# Altium integrated library ON Semi ESD Protection Diodes & Arrays.IntLib: 286 symbols (part 1 of 8)
Pins are listed as number, name and electrical type; pins without a type are passive.

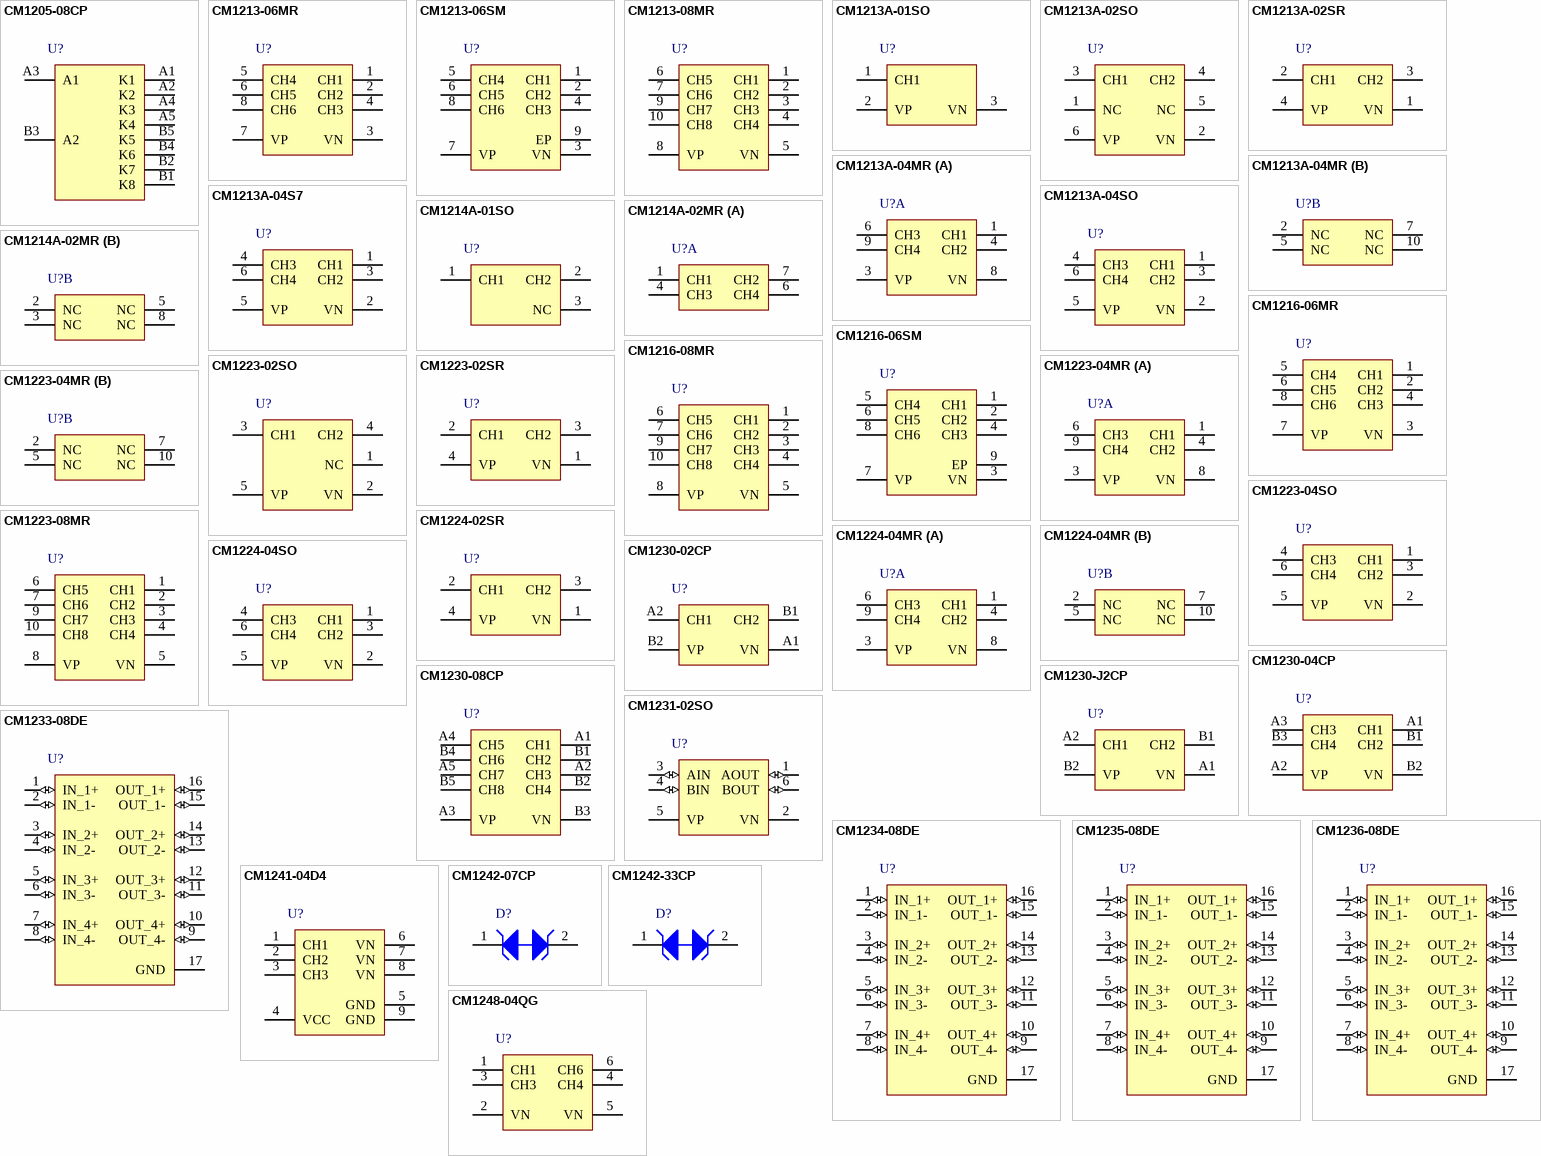
[diagram p0: symbols CM1205-08CP to CM1248-04QG]

## CM1205-08CP
designator U?
8-Channel ESD Protection Array, 10-Pin WLCSP, Pb-Free, Tape and Reel; Manufacturer: On Semiconductor; PartNumber: CM1205-08CP; C Max (pF): 47; Direction: Unidirectional; Number of Lines: 8; DatasheetVersion: Rev. 4; PackageVersion: Rev. O, 07/2010; PackageReference: WLCSP-10-567BM-01; PackageDescription: 10-Ball Wafer Level Chip Scale Package, Body 3.1 x 1.15 mm, Pitch 0.65 mm; Supplier 1: Digi-Key; Supplier Part Number 1: CM1205-08CP-ND; Supplier 2: Mouser; Supplier Part Number 2: 748-CM1205-08CP; Packing: Tape and Reel; RoHS: Pb-Free; Mounting Technology: Surface Mount; ComponentLink1Description: Manufacturer URL; ComponentLink1URL: http://www.onsemi.com/; ComponentLink2Description: Datasheet; ComponentLink2URL: http://www.onsemi.com/pub_link/Collateral/CM1205-D.PDF; ComponentLink3Description: Package Specification; ComponentLink3URL: http://www.onsemi.com/pub_link/Collateral/567BM.PDF
footprint ONSC-WLCSP-10-567BM-01_V (BGA, 10-Balls, Body 3.1x1.15mm, Pitch 0.65mm)
pins: A1 K1, A2 K2, A3 A1, A4 K3, A5 K4, B1 K8, B2 K7, B3 A2, B4 K6, B5 K5

## CM1213-06MR
designator U?
6-Channel Low Capacitance ESD Protection Array, 8-Pin MICRO, Pb-Free, Tape and Reel; Manufacturer: On Semiconductor; PartNumber: CM1213-06MR; C Max (pF): 1.5; Direction: Bidirectional; IR Max (uA): 1; Number of Lines: 6; PPK Max (W): 0.4; DatasheetVersion: Rev. 5; PackageVersion: Rev. O, 12/2008; PackageReference: MICRO-8-846AD; PackageDescription: 8-Pin Micro Small Outline Package, Body 3 x 3 mm, Pitch 0.65 mm; Supplier 1: Digi-Key; Supplier Part Number 1: CM1213-06MR-ND; Supplier 2: Mouser; Supplier Part Number 2: 748-CM1213-06MR; Packing: Tape and Reel; RoHS: Pb-Free; Mounting Technology: Surface Mount; Code_JEDEC: MO-187; ComponentLink1Description: Manufacturer URL; ComponentLink1URL: http://www.onsemi.com/; ComponentLink2Description: Datasheet; ComponentLink2URL: http://www.onsemi.com/pub_link/Collateral/CM1213-D.PDF; ComponentLink3Description: Package Specification; ComponentLink3URL: http://www.onsemi.cn/pub_link/Collateral/846AD.PDF
footprint ONSC-MICRO-8-846AD_N (SOP, 8-Leads, Body 3.1x3.1mm, Pitch 0.65mm, IPC Medium Density)
footprint ONSC-MICRO-8-846AD_L (SOP, 8-Leads, Body 3.1x3.1mm, Pitch 0.65mm, IPC High Density)
footprint ONSC-MICRO-8-846AD_M (SOP, 8-Leads, Body 3.1x3.1mm, Pitch 0.65mm, IPC Low Density)
pins: 1 CH1 "ESD Channel", 2 CH2 "ESD Channel", 3 VN (power) "Negative voltage supply rail", 4 CH3 "ESD Channel", 5 CH4 "ESD Channel", 6 CH5 "ESD Channel", 7 VP (power) "Positive voltage supply rail", 8 CH6 "ESD Channel"

## CM1213-06SM
designator U?
6-Channel Low Capacitance ESD Protection Array, 8-Pin SOIC, Pb-Free, Tape and Reel; Manufacturer: On Semiconductor; PartNumber: CM1213-06SM; C Max (pF): 1.5; Direction: Bidirectional; IR Max (uA): 1; Number of Lines: 6; PPK Max (W): 0.6; DatasheetVersion: Rev. 5; PackageVersion: Rev. B, 06/2005; PackageReference: SOIC-8-751AC-01; PackageDescription: 8-Pin Small Outline Integrated Circuit, Body 4.9 x 3.9 mm, Pitch 1.27 mm; Supplier 1: Digi-Key; Supplier Part Number 1: CM1213-06SM-ND; Supplier 2: Newark; Supplier Part Number 2: 99R2502; Packing: Tape and Reel; RoHS: Pb-Free; Mounting Technology: Surface Mount; ComponentLink1Description: Manufacturer URL; ComponentLink1URL: http://www.onsemi.com/; ComponentLink2Description: Datasheet; ComponentLink2URL: http://www.onsemi.com/pub_link/Collateral/CM1213-D.PDF; ComponentLink3Description: Package Specification; ComponentLink3URL: http://www.onsemi.com/pub_link/Collateral/751AC.PDF
footprint ONSC-SOIC-8-751AC-01_V (SOIC, 8-Leads, Body 4.9x3.9mm, Pitch 1.27mm, Thermal Pad 2.03x2.72mm)
pins: 1 CH1 "ESD Channel", 2 CH2 "ESD Channel", 3 VN (power) "Negative voltage supply rail", 4 CH3 "ESD Channel", 5 CH4 "ESD Channel", 6 CH5 "ESD Channel", 7 VP (power) "Positive voltage supply rail", 8 CH6 "ESD Channel", 9 EP

## CM1213-08MR
designator U?
8-Channel Low Capacitance ESD Protection Array, 10-Pin MSOP, Pb-Free, Tape and Reel; Manufacturer: On Semiconductor; PartNumber: CM1213-08MR; C Max (pF): 1.5; Direction: Bidirectional; IR Max (uA): 1; Number of Lines: 8; PPK Max (W): 0.4; DatasheetVersion: Rev. 5; PackageVersion: Rev. O, 12/2008; PackageReference: MSOP-10-846AE-01; PackageDescription: 10-Pin Small Outline Package, Body 3 x 3 mm, Pitch 0.5 mm; Supplier 1: Digi-Key; Supplier Part Number 1: CM1213-08MROSTR-ND; Supplier 2: Digi-Key; Supplier Part Number 2: CM1213-08MROSCT-ND; Supplier 3: Digi-Key; Supplier Part Number 3: CM1213-08MROSDKR-ND; Supplier 4: Newark; Supplier Part Number 4: 99R2503; Supplier 5: Mouser; Supplier Part Number 5: 748-CM1213-08MR; Packing: Tape and Reel; RoHS: Pb-Free; Mounting Technology: Surface Mount; Code_JEDEC: MO-187; ComponentLink1Description: Manufacturer URL; ComponentLink1URL: http://www.onsemi.com/; ComponentLink2Description: Datasheet; ComponentLink2URL: http://www.onsemi.com/pub_link/Collateral/CM1213-D.PDF; ComponentLink3Description: Package Specification; ComponentLink3URL: http://www.onsemi.com/pub_link/Collateral/846AE.PDF
footprint ONSC-MSOP-10-846AE-01_N (SOP, 10-Leads, Body 3.1x3.1mm, Pitch 0.5mm, IPC Medium Density)
footprint ONSC-MSOP-10-846AE-01_L (SOP, 10-Leads, Body 3.1x3.1mm, Pitch 0.5mm, IPC High Density)
footprint ONSC-MSOP-10-846AE-01_M (SOP, 10-Leads, Body 3.1x3.1mm, Pitch 0.5mm, IPC Low Density)
pins: 1 CH1 "ESD Channel", 2 CH2 "ESD Channel", 3 CH3 "ESD Channel", 4 CH4 "ESD Channel", 5 VN (power) "Negative voltage supply rail", 6 CH5 "ESD Channel", 7 CH6 "ESD Channel", 8 VP (power) "Positive voltage supply rail", 9 CH7 "ESD Channel", 10 CH8 "ESD Channel"

## CM1213A-01SO
designator U?
1-Channel Low Capacitance ESD Protection Array, 3-Pin SOT-23, Pb-Free, Tape and Reel; Manufacturer: On Semiconductor; PartNumber: CM1213A-01SO; C Max (pF): 1.2; Direction: Unidirectional; IR Max (uA): 1; PPK Max (W): 0.225; DatasheetVersion: Rev. 8; PackageVersion: Rev. AP, 11/2009; PackageReference: SOT-23-3-318-08; PackageDescription: 3-Pin Small Outline Transistor, Body 2.92 x 1.3 mm, Pitch 0.95 mm; Supplier 1: Digi-Key; Supplier Part Number 1: CM1213A-01SOOSTR-ND; Supplier 2: Digi-Key; Supplier Part Number 2: CM1213A-01SOOSCT-ND; Supplier 3: Digi-Key; Supplier Part Number 3: CM1213A-01SOOSDKR-ND; Supplier 4: Newark; Supplier Part Number 4: 99R2504; Supplier 5: Mouser; Supplier Part Number 5: 748-CM1213A-01SO; Number of Lines: 1; Packing: Tape and Reel; RoHS: Pb-Free; Mounting Technology: Surface Mount; ComponentLink1Description: Manufacturer URL; ComponentLink1URL: http://www.onsemi.com/; ComponentLink2Description: Datasheet; ComponentLink2URL: http://www.onsemi.com/pub_link/Collateral/CM1213A.PDF; ComponentLink3Description: Package Specification; ComponentLink3URL: http://www.onsemi.cn/pub_link/Collateral/318-08.PDF
footprint ONSC-SOT-23-3-318-08_V (SOT23, 3-Leads, Body 2.92x1.3mm, Pitch 0.95mm)
pins: 1 CH1 "ESD Channel", 2 VP (power) "Positive Voltage Supply Rail", 3 VN (power) "Negative Voltage Supply Rail"

## CM1213A-02SO
designator U?
2-Channel Low Capacitance ESD Protection Array, 6-Pin SC-74, Pb-Free, Tape and Reel; Manufacturer: On Semiconductor; PartNumber: CM1213A-02SO; C Max (pF): 1.2; Direction: Unidirectional; IR Max (uA): 1; Number of Lines: 2; PPK Max (W): 0.225; DatasheetVersion: Rev. 8; PackageVersion: Rev. N, 06/2012; PackageReference: SC-74-6-318F-05; PackageDescription: 6-Pin Small Outline Transistor, Body 3 x 1.5 mm, Pitch 0.95 mm; Supplier 1: Digi-Key; Supplier Part Number 1: CM1213A-02SOOSTR-ND; Supplier 2: Digi-Key; Supplier Part Number 2: CM1213A-02SOOSCT-ND; Supplier 3: Digi-Key; Supplier Part Number 3: CM1213A-02SOOSDKR-ND; Supplier 4: Newark; Supplier Part Number 4: 99R2505; Supplier 5: Mouser; Supplier Part Number 5: 748-CM1213A-02SO; Packing: Tape and Reel; RoHS: Pb-Free; Mounting Technology: Surface Mount; ComponentLink1Description: Manufacturer URL; ComponentLink1URL: http://www.onsemi.com/; ComponentLink2Description: Datasheet; ComponentLink2URL: http://www.onsemi.com/pub_link/Collateral/CM1213A.PDF; ComponentLink3Description: Package Specification; ComponentLink3URL: http://www.onsemi.com/pub_link/Collateral/318F-05.PDF
footprint ONSC-SC-74-6-318F-05_V (SOT23, 6-Leads, Body 3x1.5mm, Pitch 0.95mm)
pins: 1 NC "No Connect", 2 VN (power) "Negative Voltage Supply Rail", 3 CH1 "ESD Channel", 4 CH2 "ESD Channel", 5 NC "No Connect", 6 VP (power) "Positive Voltage Supply Rail"

## CM1213A-02SR
designator U?
2-Channel Low Capacitance ESD Protection Array, 4-Pin SOT-143, Pb-Free, Tape and Reel; Manufacturer: On Semiconductor; PartNumber: CM1213A-02SR; C Max (pF): 1.2; Direction: Unidirectional; IR Max (uA): 1; Number of Lines: 2; PPK Max (W): 0.225; DatasheetVersion: Rev. 8; PackageVersion: Rev. A, 03/2009; PackageReference: SOT-143-4-527AF-01; PackageDescription: 4-Pin Small Outline Transistor, Body 2.92 x 1.3 mm, Pitch 1.92 mm; Supplier 1: Digi-Key; Supplier Part Number 1: CM1213A-02SROSTR-ND; Supplier 2: Digi-Key; Supplier Part Number 2: CM1213A-02SROSCT-ND; Supplier 3: Digi-Key; Supplier Part Number 3: CM1213A-02SROSDKR-ND; Supplier 4: Newark; Supplier Part Number 4: 99R2506; Supplier 5: Mouser; Supplier Part Number 5: 748-CM1213A-02SR; Packing: Tape and Reel; RoHS: Pb-Free; Mounting Technology: Surface Mount; Code_JEDEC: TO-253; ComponentLink1Description: Manufacturer URL; ComponentLink1URL: http://www.onsemi.com/; ComponentLink2Description: Datasheet; ComponentLink2URL: http://www.onsemi.com/pub_link/Collateral/CM1213A.PDF; ComponentLink3Description: Package Specification; ComponentLink3URL: http://www.onsemi.com/pub_link/Collateral/527AF.PDF
footprint ONSC-SOT-143-4-527AF-01_N (SOT143, 4-Leads, Body 3.04x1.4mm, Pitch 1.92mm, IPC Medium Density)
footprint ONSC-SOT-143-4-527AF-01_L (SOT143, 4-Leads, Body 3.04x1.4mm, Pitch 1.92mm, IPC High Density)
footprint ONSC-SOT-143-4-527AF-01_M (SOT143, 4-Leads, Body 3.04x1.4mm, Pitch 1.92mm, IPC Low Density)
pins: 1 VN (power) "Negative Voltage Supply Rail", 2 CH1 "ESD Channel", 3 CH2 "ESD Channel", 4 VP (power) "Positive Voltage Supply Rail"

## CM1213A-04MR
designator U?
4-Channel Low Capacitance ESD Protection Arrays, 10-Pin MSOP, Pb-Free, Tape and Reel; Manufacturer: On Semiconductor; PartNumber: CM1213A-04MR; C Max (pF): 1.2; Direction: Unidirectional; IR Max (uA): 1; Number of Lines: 4; PPK Max (W): 0.4; DatasheetVersion: Rev. 8; PackageVersion: Rev. O, 12/2008; PackageReference: MSOP-10-846AE-01; PackageDescription: 10-Pin Small Outline Package, Body 3 x 3 mm, Pitch 0.5 mm; Supplier 1: Digi-Key; Supplier Part Number 1: CM1213A-04MROSTR-ND; Supplier 2: Digi-Key; Supplier Part Number 2: CM1213A-04MROSCT-ND; Supplier 3: Digi-Key; Supplier Part Number 3: CM1213A-04MROSDKR-ND; Supplier 4: Newark; Supplier Part Number 4: 99R2507; Supplier 5: Mouser; Supplier Part Number 5: 748-CM1213A-04MR; Packing: Tape and Reel; RoHS: Pb-Free; Mounting Technology: Surface Mount; Code_JEDEC: MO-187; ComponentLink1Description: Manufacturer URL; ComponentLink1URL: http://www.onsemi.com/; ComponentLink2Description: Datasheet; ComponentLink2URL: http://www.onsemi.com/pub_link/Collateral/CM1213A.PDF; ComponentLink3Description: Package Specification; ComponentLink3URL: http://www.onsemi.com/pub_link/Collateral/846AE.PDF
footprint ONSC-MSOP-10-846AE-01_N (SOP, 10-Leads, Body 3.1x3.1mm, Pitch 0.5mm, IPC Medium Density)
footprint ONSC-MSOP-10-846AE-01_L (SOP, 10-Leads, Body 3.1x3.1mm, Pitch 0.5mm, IPC High Density)
footprint ONSC-MSOP-10-846AE-01_M (SOP, 10-Leads, Body 3.1x3.1mm, Pitch 0.5mm, IPC Low Density)
part A pins: 1 CH1 "ESD Channel", 3 VP (power) "Positive Voltage Supply Rail", 4 CH2 "ESD Channel", 6 CH3 "ESD Channel", 8 VN (power) "Negative Voltage Supply Rail", 9 CH4 "ESD Channel"
part B pins: 2 NC "No Connect", 5 NC "No Connect", 7 NC "No Connect", 10 NC "No Connect"

## CM1213A-04S7
designator U?
4-Channel Low Capacitance ESD Protection Array, 6-Pin SC70, Pb-Free, Tape and Reel; Manufacturer: On Semiconductor; PartNumber: CM1213A-04S7; C Max (pF): 1.2; Direction: Unidirectional; IR Max (uA): 1; Number of Lines: 4; PPK Max (W): 0.225; DatasheetVersion: Rev. 8; PackageVersion: Rev. A, 07/2010; PackageReference: SC70-6-419AD-01; PackageDescription: 6-Pin Small Outline Transistor, Body 2 x 1.25 mm, Pitch 0.65 mm; Supplier 1: Digi-Key; Supplier Part Number 1: CM1213A-04S7-ND; Supplier 2: Newark; Supplier Part Number 2: 99R2509; Supplier 3: Mouser; Supplier Part Number 3: 748-CM1213A-04S7; Packing: Tape and Reel; RoHS: Pb-Free; Mounting Technology: Surface Mount; Code_JEDEC: MO-203; ComponentLink1Description: Manufacturer URL; ComponentLink1URL: http://www.onsemi.com/; ComponentLink2Description: Datasheet; ComponentLink2URL: http://www.onsemi.com/pub_link/Collateral/CM1213A.PDF; ComponentLink3Description: Package Specification; ComponentLink3URL: http://www.onsemi.com/pub_link/Collateral/419AD.PDF
footprint ONSC-SC70-6-419AD-01_N (SOT23, 6-Leads, Body 2.2x1.35mm, Pitch 0.65mm, IPC Medium Density)
footprint ONSC-SC70-6-419AD-01_L (SOT23, 6-Leads, Body 2.2x1.35mm, Pitch 0.65mm, IPC High Density)
footprint ONSC-SC70-6-419AD-01_M (SOT23, 6-Leads, Body 2.2x1.35mm, Pitch 0.65mm, IPC Low Density)
pins: 1 CH1 "ESD Channel", 2 VN (power) "Negative Voltage Supply Rail", 3 CH2 "ESD Channel", 4 CH3 "ESD Channel", 5 VP (power) "Positive Voltage Supply Rail", 6 CH4 "ESD Channel"

## CM1213A-04SO
designator U?
4-Channel Low Capacitance ESD Protection Array, 6-Pin SC-74, Pb-Free, Tape and Reel; Manufacturer: On Semiconductor; PartNumber: CM1213A-04SO; C Max (pF): 2; Direction: Bidirectional; IR Max (uA): 1; Number of Lines: 4; PPK Max (W): 0.225; DatasheetVersion: Rev. 0; PackageVersion: Rev. N, 06/2012; PackageReference: SC-74-6-318F-05; PackageDescription: 6-Pin Small Outline Transistor, Body 3 x 1.5 mm, Pitch 0.95 mm; Supplier 1: Digi-Key; Supplier Part Number 1: CM1213A-04SOOSTR-ND; Supplier 2: Digi-Key; Supplier Part Number 2: CM1213A-04SOOSCT-ND; Supplier 3: Digi-Key; Supplier Part Number 3: CM1213A-04SOOSDKR-ND; Supplier 4: Farnell; Supplier Part Number 4: 1887039; Supplier 5: Newark; Supplier Part Number 5: 99R2508; Supplier 6: Mouser; Supplier Part Number 6: 748-CM1213A-04SO; Packing: Tape and Reel; RoHS: Pb-Free; Mounting Technology: Surface Mount; ComponentLink1Description: Manufacturer URL; ComponentLink1URL: http://www.onsemi.com/; ComponentLink2Description: Datasheet; ComponentLink2URL: http://www.onsemi.com/pub_link/Collateral/CM1213A-04SO-D.PDF; ComponentLink3Description: Package Specification; ComponentLink3URL: http://www.onsemi.com/pub_link/Collateral/318F-05.PDF
footprint ONSC-SC-74-6-318F-05_V (SOT23, 6-Leads, Body 3x1.5mm, Pitch 0.95mm)
pins: 1 CH1 "ESD Channel", 2 VN (power) "Negative Voltage Supply Rail", 3 CH2 "ESD Channel", 4 CH3 "ESD Channel", 5 VP (power) "Positive Voltage Supply Rail", 6 CH4 "ESD Channel"

## CM1214A-01SO
designator U?
1-Channel PicoGuard(R) AC Signal ESD Protector, 3-Pin SOT-23, Pb-Free, Tape and Reel; Manufacturer: On Semiconductor; PartNumber: CM1214A-01SO; Direction: Bidirectional; IR Max (uA): 1; Number of Lines: 2; PPK Max (W): 0.225; DatasheetVersion: Rev. 3; PackageVersion: Rev. AP, 11/2009; PackageReference: SOT-23-3-318-08; PackageDescription: 3-Pin Small Outline Transistor, Body 2.92 x 1.3 mm, Pitch 0.95 mm; Supplier 1: Digi-Key; Supplier Part Number 1: CM1214A-01SOOSTR-ND; Supplier 2: Digi-Key; Supplier Part Number 2: CM1214A-01SOOSCT-ND; Supplier 3: Digi-Key; Supplier Part Number 3: CM1214A-01SOOSDKR-ND; Supplier 4: Farnell; Supplier Part Number 4: 2317454; Supplier 5: Farnell; Supplier Part Number 5: 2317735; Supplier 6: Mouser; Supplier Part Number 6: 748-CM1214A-01SO; Packing: Tape and Reel; RoHS: Pb-Free; Mounting Technology: Surface Mount; ComponentLink1Description: Manufacturer URL; ComponentLink1URL: http://www.onsemi.com/; ComponentLink2Description: Datasheet; ComponentLink2URL: http://www.onsemi.com/pub_link/Collateral/CM1214A-D.PDF; ComponentLink3Description: Package Specification; ComponentLink3URL: http://www.onsemi.cn/pub_link/Collateral/318-08.PDF
footprint ONSC-SOT-23-3-318-08_V (SOT23, 3-Leads, Body 2.92x1.3mm, Pitch 0.95mm)
pins: 1 CH1 "ESD Channel", 2 CH2 "ESD Channel", 3 NC "No connect"

## CM1214A-02MR
designator U?
4-Channel PicoGuard(R) AC Signal ESD Protector, 8-Pin MSOP, Pb-Free, Tape and Reel; Manufacturer: On Semiconductor; PartNumber: CM1214A-02MR; Direction: Bidirectional; IR Max (uA): 1; Number of Lines: 4; PPK Max (W): 0.4; DatasheetVersion: Rev. 3; PackageVersion: Rev. O; PackageReference: MSOP-8-846AD-01_O; PackageDescription: 8-Pin Small Outline Package, Body 3 x 3 mm, Pitch 0.65 mm; Supplier 1: Digi-Key; Supplier Part Number 1: CM1214A-02MROSTR-ND; Supplier 2: Digi-Key; Supplier Part Number 2: CM1214A-02MROSCT-ND; Supplier 3: Digi-Key; Supplier Part Number 3: CM1214A-02MROSDKR-ND; Supplier 4: Farnell; Supplier Part Number 4: 2317502; Supplier 5: Newark; Supplier Part Number 5: 99R2511; Supplier 6: Mouser; Supplier Part Number 6: 748-CM1214A-02MR; Packing: Tape and Reel; RoHS: Pb-Free; Mounting Technology: Surface Mount; Code_JEDEC: MO-187; ComponentLink1Description: Manufacturer URL; ComponentLink1URL: http://www.onsemi.com/; ComponentLink2Description: Datasheet; ComponentLink2URL: http://www.onsemi.com/pub_link/Collateral/CM1214A-D.PDF; ComponentLink3Description: Package Specification; ComponentLink3URL: http://www.onsemi.com/pub_link/Collateral/CM1214A-D.PDF
footprint ONSC-MSOP-8-846AD-01_N (SOP, 8-Leads, Body 3.1x3.1mm, Pitch 0.65mm, IPC Medium Density)
footprint ONSC-MSOP-8-846AD-01_L (SOP, 8-Leads, Body 3.1x3.1mm, Pitch 0.65mm, IPC High Density)
footprint ONSC-MSOP-8-846AD-01_M (SOP, 8-Leads, Body 3.1x3.1mm, Pitch 0.65mm, IPC Low Density)
part A pins: 1 CH1 "ESD Channel", 4 CH3 "ESD Channel", 6 CH4 "ESD Channel", 7 CH2 "ESD Channel"
part B pins: 2 NC "No connect", 3 NC "No connect", 5 NC "No connect", 8 NC "No connect"

## CM1216-06MR
designator U?
6-Channel Low Capacitance ESD Array, 8-Pin MSOP, Pb-Free, Tape and Reel; Manufacturer: On Semiconductor; PartNumber: CM1216-06MR; C Max (pF): 2; Direction: Unidirectional; IR Max (uA): 1; Number of Lines: 6; PPK Max (W): 0.4; DatasheetVersion: Rev. 3; PackageVersion: Rev. O; PackageReference: MSOP-8-846AD-01_O; PackageDescription: 8-Pin Small Outline Package, Body 3 x 3 mm, Pitch 0.65 mm; Supplier 1: Digi-Key; Supplier Part Number 1: CM1216-06MROSTR-ND; Supplier 2: Digi-Key; Supplier Part Number 2: CM1216-06MROSCT-ND; Supplier 3: Digi-Key; Supplier Part Number 3: CM1216-06MROSDKR-ND; Supplier 4: Newark; Supplier Part Number 4: 99R2515; Supplier 5: Mouser; Supplier Part Number 5: 748-CM1216-06MR; Packing: Tape and Reel; RoHS: Pb-Free; Mounting Technology: Surface Mount; Code_JEDEC: MO-187; ComponentLink1Description: Manufacturer URL; ComponentLink1URL: http://www.onsemi.com/; ComponentLink2Description: Datasheet; ComponentLink2URL: http://www.onsemi.com/pub_link/Collateral/CM1216-D.PDF; ComponentLink3Description: Package Specification; ComponentLink3URL: http://www.onsemi.com/pub_link/Collateral/CM1214A-D.PDF
footprint ONSC-MSOP-8-846AD-01_N (SOP, 8-Leads, Body 3.1x3.1mm, Pitch 0.65mm, IPC Medium Density)
footprint ONSC-MSOP-8-846AD-01_L (SOP, 8-Leads, Body 3.1x3.1mm, Pitch 0.65mm, IPC High Density)
footprint ONSC-MSOP-8-846AD-01_M (SOP, 8-Leads, Body 3.1x3.1mm, Pitch 0.65mm, IPC Low Density)
pins: 1 CH1 "ESD Channel", 2 CH2 "ESD Channel", 3 VN (power) "Negative voltage supply rail", 4 CH3 "ESD Channel", 5 CH4 "ESD Channel", 6 CH5 "ESD Channel", 7 VP (power) "Positive voltage supply rail", 8 CH6 "ESD Channel"

## CM1216-06SM
designator U?
6-Channel Low Capacitance ESD Array, 8-Pin SOIC, Pb-Free, Tape and Reel; Manufacturer: On Semiconductor; PartNumber: CM1216-06SM; C Max (pF): 2; Direction: Unidirectional; IR Max (uA): 1; Number of Lines: 6; PPK Max (W): 0.6; DatasheetVersion: Rev. 3; PackageVersion: Rev. B, 06/2005; PackageReference: SOIC-8-751AC-01; PackageDescription: 8-Pin Small Outline Integrated Circuit, Body 4.9 x 3.9 mm, Pitch 1.27 mm; Packing: Tape and Reel; RoHS: Pb-Free; Mounting Technology: Surface Mount; ComponentLink1Description: Manufacturer URL; ComponentLink1URL: http://www.onsemi.com/; ComponentLink2Description: Datasheet; ComponentLink2URL: http://www.onsemi.com/pub_link/Collateral/CM1216-D.PDF; ComponentLink3Description: Package Specification; ComponentLink3URL: http://www.onsemi.com/pub_link/Collateral/751AC.PDF
footprint ONSC-SOIC-8-751AC-01_V (SOIC, 8-Leads, Body 4.9x3.9mm, Pitch 1.27mm, Thermal Pad 2.03x2.72mm)
pins: 1 CH1 "ESD Channel", 2 CH2 "ESD Channel", 3 VN (power) "Negative voltage supply rail", 4 CH3 "ESD Channel", 5 CH4 "ESD Channel", 6 CH5 "ESD Channel", 7 VP (power) "Positive voltage supply rail", 8 CH6 "ESD Channel", 9 EP

## CM1216-08MR
designator U?
8-Channel Low Capacitance ESD Array, 10-Pin MSOP, Pb-Free, Tape and Reel; Manufacturer: On Semiconductor; PartNumber: CM1216-08MR; C Max (pF): 2; Direction: Unidirectional; IR Max (uA): 1; Number of Lines: 8; PPK Max (W): 0.4; DatasheetVersion: Rev. 3; PackageVersion: Rev. O, 12/2008; PackageReference: MSOP-10-846AE-01; PackageDescription: 10-Pin Small Outline Package, Body 3 x 3 mm, Pitch 0.5 mm; Supplier 1: Digi-Key; Supplier Part Number 1: CM1216-08MR-ND; Supplier 2: Newark; Supplier Part Number 2: 99R2516; Supplier 3: Mouser; Supplier Part Number 3: 748-CM1216-08MR; Packing: Tape and Reel; RoHS: Pb-Free; Mounting Technology: Surface Mount; Code_JEDEC: MO-187; ComponentLink1Description: Manufacturer URL; ComponentLink1URL: http://www.onsemi.com/; ComponentLink2Description: Datasheet; ComponentLink2URL: http://www.onsemi.com/pub_link/Collateral/CM1216-D.PDF; ComponentLink3Description: Package Specification; ComponentLink3URL: http://www.onsemi.com/pub_link/Collateral/846AE.PDF
footprint ONSC-MSOP-10-846AE-01_N (SOP, 10-Leads, Body 3.1x3.1mm, Pitch 0.5mm, IPC Medium Density)
footprint ONSC-MSOP-10-846AE-01_L (SOP, 10-Leads, Body 3.1x3.1mm, Pitch 0.5mm, IPC High Density)
footprint ONSC-MSOP-10-846AE-01_M (SOP, 10-Leads, Body 3.1x3.1mm, Pitch 0.5mm, IPC Low Density)
pins: 1 CH1 "ESD Channel", 2 CH2 "ESD Channel", 3 CH3 "ESD Channel", 4 CH4 "ESD Channel", 5 VN (power) "Negative voltage supply rail", 6 CH5 "ESD Channel", 7 CH6 "ESD Channel", 8 VP (power) "Positive voltage supply rail", 9 CH7 "ESD Channel", 10 CH8 "ESD Channel"

## CM1223-02SO
designator U?
Industry First Low Capacitance ESD Protection Arrays with Backdrive Protection, 5-Pin SOT-23, Pb-Free, Tape and Reel; Manufacturer: On Semiconductor; PartNumber: CM1223-02SO; C Max (pF): 1.5; Direction: Unidirectional; Number of Lines: 2; PPK Max (W): 0.225; DatasheetVersion: Rev. 6; PackageVersion: Rev. O, 12/2008; PackageReference: SOT23-5-527AH-01; PackageDescription: 5-Pin Small Outline Transistor, Body 2.9 x 1.6 mm, Pitch 0.95 mm; Supplier 1: Digi-Key; Supplier Part Number 1: CM1223-02SO-ND; Supplier 2: Mouser; Supplier Part Number 2: 748-CM1223-02SO; Packing: Tape and Reel; RoHS: Pb-Free; Mounting Technology: Surface Mount; Code_JEDEC: MO-178; ComponentLink1Description: Manufacturer URL; ComponentLink1URL: http://www.onsemi.com/; ComponentLink2Description: Datasheet; ComponentLink2URL: http://www.onsemi.com/pub_link/Collateral/CM1223-D.PDF; ComponentLink3Description: Package Specification; ComponentLink3URL: http://www.onsemi.com/pub_link/Collateral/527AH.PDF
footprint ONSC-SOT23-5-527AH-01_N (SOT23, 5-Leads, Body 2.9x1.6mm, Pitch 0.95mm, IPC Medium Density)
footprint ONSC-SOT23-5-527AH-01_L (SOT23, 5-Leads, Body 2.9x1.6mm, Pitch 0.95mm, IPC High Density)
footprint ONSC-SOT23-5-527AH-01_M (SOT23, 5-Leads, Body 2.9x1.6mm, Pitch 0.95mm, IPC Low Density)
pins: 1 NC "No Connect", 2 VN (power) "Negative voltage supply rail", 3 CH1 "ESD Channel", 4 CH2 "ESD Channel", 5 VP (power) "Positive voltage supply rail"

## CM1223-02SR
designator U?
Industry First Low Capacitance ESD Protection Arrays with Backdrive Protection, 4-Pin SOT-143, Pb-Free, Tape and Reel; Manufacturer: On Semiconductor; PartNumber: CM1223-02SR; C Max (pF): 1.5; Direction: Unidirectional; Number of Lines: 2; PPK Max (W): 0.225; DatasheetVersion: Rev. 6; PackageVersion: Rev. U, 09/2011; PackageReference: SOT-143-4-318A-06; PackageDescription: 4-Pin Small Outline Transistor, Body 2.925 x 1.3 mm, Pitch 1.92 mm; Supplier 1: Digi-Key; Supplier Part Number 1: CM1223-02SR-ND; Supplier 2: Newark; Supplier Part Number 2: 99R2520; Supplier 3: Mouser; Supplier Part Number 3: 748-CM1223-02SR; Packing: Tape and Reel; RoHS: Pb-Free; Mounting Technology: Surface Mount; ComponentLink1Description: Manufacturer URL; ComponentLink1URL: http://www.onsemi.com/; ComponentLink2Description: Datasheet; ComponentLink2URL: http://www.onsemi.com/pub_link/Collateral/CM1223-D.PDF; ComponentLink3Description: Package Specification; ComponentLink3URL: http://www.onsemi.com/pub_link/Collateral/318A.PDF
footprint ONSC-SOT-143-4-318A-06_V (SOT143, 4-Leads, Body 2.925x1.3mm, Pitch 1.92mm)
pins: 1 VN (power) "Negative voltage supply rail", 2 CH1 "ESD Channel", 3 CH2 "ESD Channel", 4 VP (power) "Positive voltage supply rail"

## CM1223-04MR
designator U?
Industry First Low Capacitance ESD Protection Arrays with Backdrive Protection, 10-Pin MSOP, Pb-Free, Tape and Reel; Manufacturer: On Semiconductor; PartNumber: CM1223-04MR; C Max (pF): 1.5; Direction: Unidirectional; IR Max (uA): 1; Number of Lines: 4; PPK Max (W): 0.4; DatasheetVersion: Rev. 6; PackageVersion: Rev. O, 12/2008; PackageReference: MSOP-10-846AE-01; PackageDescription: 10-Pin Small Outline Package, Body 3 x 3 mm, Pitch 0.5 mm; Packing: Tape and Reel; RoHS: Pb-Free; Mounting Technology: Surface Mount; Code_JEDEC: MO-187; ComponentLink1Description: Manufacturer URL; ComponentLink1URL: http://www.onsemi.com/; ComponentLink2Description: Datasheet; ComponentLink2URL: http://www.onsemi.com/pub_link/Collateral/CM1223-D.PDF; ComponentLink3Description: Package Specification; ComponentLink3URL: http://www.onsemi.com/pub_link/Collateral/846AE.PDF
footprint ONSC-MSOP-10-846AE-01_N (SOP, 10-Leads, Body 3.1x3.1mm, Pitch 0.5mm, IPC Medium Density)
footprint ONSC-MSOP-10-846AE-01_L (SOP, 10-Leads, Body 3.1x3.1mm, Pitch 0.5mm, IPC High Density)
footprint ONSC-MSOP-10-846AE-01_M (SOP, 10-Leads, Body 3.1x3.1mm, Pitch 0.5mm, IPC Low Density)
part A pins: 1 CH1 "ESD Channel", 3 VP (power) "Positive voltage supply rail", 4 CH2 "ESD Channel", 6 CH3 "ESD Channel", 8 VN (power) "Negative voltage supply rail", 9 CH4 "ESD Channel"
part B pins: 2 NC "No Connect", 5 NC "No Connect", 7 NC "No Connect", 10 NC "No Connect"

## CM1223-04SO
designator U?
Industry First Low Capacitance ESD Protection Arrays with Backdrive Protection, 6-Pin SOT-23, Pb-Free, Tape and Reel; Manufacturer: On Semiconductor; PartNumber: CM1223-04SO; C Max (pF): 1.5; Direction: Unidirectional; IR Max (uA): 1; Number of Lines: 4; PPK Max (W): 0.225; DatasheetVersion: Rev. 6; PackageVersion: Rev. B, 02/2012; PackageReference: SOT23-6-527AJ; PackageDescription: 6-Pin Small Outline Transistor, Body 2.85 x 1.55 mm, Pitch 0.95 mm; Supplier 1: Digi-Key; Supplier Part Number 1: CM1223-04SO-ND; Supplier 2: Newark; Supplier Part Number 2: 99R2521; Supplier 3: Mouser; Supplier Part Number 3: 748-CM1223-04SO; Packing: Tape and Reel; RoHS: Pb-Free; Mounting Technology: Surface Mount; ComponentLink1Description: Manufacturer URL; ComponentLink1URL: http://www.onsemi.com/; ComponentLink2Description: Datasheet; ComponentLink2URL: http://www.onsemi.com/pub_link/Collateral/CM1223-D.PDF; ComponentLink3Description: Package Specification; ComponentLink3URL: http://www.onsemi.com/pub_link/Collateral/527AJ.PDF
footprint ONSC-SOT23-6-527AJ_V (SOT23, 6-Leads, Body 3x1.8mm, Pitch 0.95mm)
pins: 1 CH1 "ESD Channel", 2 VN (power) "Negative voltage supply rail", 3 CH2 "ESD Channel", 4 CH3 "ESD Channel", 5 VP (power) "Positive voltage supply rail", 6 CH4 "ESD Channel"

## CM1223-08MR
designator U?
Industry First Low Capacitance ESD Protection Arrays with Backdrive Protection, 10-Pin MSOP, Pb-Free, Tape and Reel; Manufacturer: On Semiconductor; PartNumber: CM1223-08MR; C Max (pF): 1.5; Direction: Unidirectional; IR Max (uA): 1; Number of Lines: 8; PPK Max (W): 0.4; DatasheetVersion: Rev. 6; PackageVersion: Rev. O, 12/2008; PackageReference: MSOP-10-846AE-01; PackageDescription: 10-Pin Small Outline Package, Body 3 x 3 mm, Pitch 0.5 mm; Supplier 1: Mouser; Supplier Part Number 1: 748-CM1223-08MR; Packing: Tape and Reel; RoHS: Pb-Free; Mounting Technology: Surface Mount; Code_JEDEC: MO-187; ComponentLink1Description: Manufacturer URL; ComponentLink1URL: http://www.onsemi.com/; ComponentLink2Description: Datasheet; ComponentLink2URL: http://www.onsemi.com/pub_link/Collateral/CM1223-D.PDF; ComponentLink3Description: Package Specification; ComponentLink3URL: http://www.onsemi.com/pub_link/Collateral/846AE.PDF
footprint ONSC-MSOP-10-846AE-01_N (SOP, 10-Leads, Body 3.1x3.1mm, Pitch 0.5mm, IPC Medium Density)
footprint ONSC-MSOP-10-846AE-01_L (SOP, 10-Leads, Body 3.1x3.1mm, Pitch 0.5mm, IPC High Density)
footprint ONSC-MSOP-10-846AE-01_M (SOP, 10-Leads, Body 3.1x3.1mm, Pitch 0.5mm, IPC Low Density)
pins: 1 CH1 "ESD Channel", 2 CH2 "ESD Channel", 3 CH3 "ESD Channel", 4 CH4 "ESD Channel", 5 VN (power) "Negative voltage supply rail", 6 CH5 "ESD Channel", 7 CH6 "ESD Channel", 8 VP (power) "Positive voltage supply rail", 9 CH7 "ESD Channel", 10 CH8 "ESD Channel"

## CM1224-02SR
designator U?
2-Channel Low Capacitance ESD Protection Array, 4-Pin SOT-143, Pb-Free, Tape and Reel; Manufacturer: On Semiconductor; PartNumber: CM1224-02SR; C Max (pF): 0.8; Direction: Unidirectional; IR Max (uA): 1; Number of Lines: 2; PPK Max (W): 0.225; DatasheetVersion: Rev. 5; PackageVersion: Rev. U, 09/2011; PackageReference: SOT-143-4-318A-06; PackageDescription: 4-Pin Small Outline Transistor, Body 2.925 x 1.3 mm, Pitch 1.92 mm; Supplier 1: Digi-Key; Supplier Part Number 1: CM1224-02SR-ND; Supplier 2: Newark; Supplier Part Number 2: 99R2522; Supplier 3: Mouser; Supplier Part Number 3: 748-CM1224-02SR; Packing: Tape and Reel; RoHS: Pb-Free; Mounting Technology: Surface Mount; ComponentLink1Description: Manufacturer URL; ComponentLink1URL: http://www.onsemi.com/; ComponentLink2Description: Datasheet; ComponentLink2URL: http://www.onsemi.com/pub_link/Collateral/CM1224-D.PDF; ComponentLink3Description: Package Specification; ComponentLink3URL: http://www.onsemi.com/pub_link/Collateral/318A.PDF
footprint ONSC-SOT-143-4-318A-06_V (SOT143, 4-Leads, Body 2.925x1.3mm, Pitch 1.92mm)
pins: 1 VN (power) "Negative voltage supply rail", 2 CH1 "ESD Channel", 3 CH2 "ESD Channel", 4 VP (power) "Positive voltage supply rail"

## CM1224-04MR
designator U?
4-Channel Low Capacitance ESD Protection Array, 10-Pin MSOP, Pb-Free, Tape and Reel; Manufacturer: On Semiconductor; PartNumber: CM1224-04MR; C Max (pF): 0.8; Direction: Unidirectional; IR Max (uA): 1; Number of Lines: 4; PPK Max (W): 0.4; DatasheetVersion: Rev. 5; PackageVersion: Rev. O, 12/2008; PackageReference: MSOP-10-846AE-01; PackageDescription: 10-Pin Small Outline Package, Body 3 x 3 mm, Pitch 0.5 mm; Supplier 1: Digi-Key; Supplier Part Number 1: CM1224-04MR-ND; Supplier 2: Mouser; Supplier Part Number 2: 748-CM1224-04MR; Packing: Tape and Reel; RoHS: Pb-Free; Mounting Technology: Surface Mount; Code_JEDEC: MO-187; ComponentLink1Description: Manufacturer URL; ComponentLink1URL: http://www.onsemi.com/; ComponentLink2Description: Datasheet; ComponentLink2URL: http://www.onsemi.com/pub_link/Collateral/CM1224-D.PDF; ComponentLink3Description: Package Specification; ComponentLink3URL: http://www.onsemi.com/pub_link/Collateral/846AE.PDF
footprint ONSC-MSOP-10-846AE-01_N (SOP, 10-Leads, Body 3.1x3.1mm, Pitch 0.5mm, IPC Medium Density)
footprint ONSC-MSOP-10-846AE-01_L (SOP, 10-Leads, Body 3.1x3.1mm, Pitch 0.5mm, IPC High Density)
footprint ONSC-MSOP-10-846AE-01_M (SOP, 10-Leads, Body 3.1x3.1mm, Pitch 0.5mm, IPC Low Density)
part A pins: 1 CH1 "ESD Channel", 3 VP (power) "Positive voltage supply rail", 4 CH2 "ESD Channel", 6 CH3 "ESD Channel", 8 VN (power) "Negative voltage supply rail", 9 CH4 "ESD Channel"
part B pins: 2 NC "No Connect", 5 NC "No Connect", 7 NC "No Connect", 10 NC "No Connect"

## CM1224-04SO
designator U?
4-Channel Low Capacitance ESD Protection Array, 6-Pin SOT-23, Pb-Free, Tape and Reel; Manufacturer: On Semiconductor; PartNumber: CM1224-04SO; C Max (pF): 0.8; Direction: Unidirectional; IR Max (uA): 1; Number of Lines: 4; PPK Max (W): 0.225; DatasheetVersion: Rev. 5; PackageVersion: Rev. B, 02/2012; PackageReference: SOT23-6-527AJ; PackageDescription: 6-Pin Small Outline Transistor, Body 2.85 x 1.55 mm, Pitch 0.95 mm; Supplier 1: Digi-Key; Supplier Part Number 1: CM1224-04SOOSTR-ND; Supplier 2: Digi-Key; Supplier Part Number 2: CM1224-04SOOSCT-ND; Supplier 3: Digi-Key; Supplier Part Number 3: CM1224-04SOOSDKR-ND; Supplier 4: Newark; Supplier Part Number 4: 99R2524; Supplier 5: Mouser; Supplier Part Number 5: 748-CM1224-04SO; Packing: Tape and Reel; RoHS: Pb-Free; Mounting Technology: Surface Mount; ComponentLink1Description: Manufacturer URL; ComponentLink1URL: http://www.onsemi.com/; ComponentLink2Description: Datasheet; ComponentLink2URL: http://www.onsemi.com/pub_link/Collateral/CM1224-D.PDF; ComponentLink3Description: Package Specification; ComponentLink3URL: http://www.onsemi.com/pub_link/Collateral/527AJ.PDF
footprint ONSC-SOT23-6-527AJ_V (SOT23, 6-Leads, Body 3x1.8mm, Pitch 0.95mm)
pins: 1 CH1 "ESD Channel", 2 VN (power) "Negative voltage supply rail", 3 CH2 "ESD Channel", 4 CH3 "ESD Channel", 5 VP (power) "Positive voltage supply rail", 6 CH4 "ESD Channel"

## CM1230-02CP
designator U?
2-Channel Low-Capacitance ESD Protection Array, 4-Pin WLCSP, Pb-Free, Tape and Reel; Manufacturer: On Semiconductor; PartNumber: CM1230-02CP; C Max (pF): 1.2; Direction: Unidirectional; Number of Lines: 2; DatasheetVersion: Rev. 4; PackageVersion: Rev. O, 07/2010; PackageReference: WLCSP-4-567CS-01; PackageDescription: 4-Ball Wafer Level Chip Scale Package, Body 0.96 x 0.96 mm, Pitch 0.5 mm; Supplier 1: Digi-Key; Supplier Part Number 1: CM1230-02CPOSTR-ND; Supplier 2: Digi-Key; Supplier Part Number 2: CM1230-02CPOSCT-ND; Supplier 3: Digi-Key; Supplier Part Number 3: CM1230-02CPOSDKR-ND; Supplier 4: Farnell; Supplier Part Number 4: 2317521; Supplier 5: Farnell; Supplier Part Number 5: 2317794; Supplier 6: Newark; Supplier Part Number 6: 99R2527; Supplier 7: Newark; Supplier Part Number 7: 85W3229; Supplier 8: Mouser; Supplier Part Number 8: 748-CM1230-02CP; Packing: Tape and Reel; RoHS: Pb-Free; Mounting Technology: Surface Mount; ComponentLink1Description: Manufacturer URL; ComponentLink1URL: http://www.onsemi.com/; ComponentLink2Description: Datasheet; ComponentLink2URL: http://www.onsemi.com/pub_link/Collateral/CM1230-D.PDF; ComponentLink3Description: Package Specification; ComponentLink3URL: http://www.onsemi.cn/pub_link/Collateral/567CS.PDF
footprint ONSC-WLCSP-4-567CS-01 (BGA, 4-Balls, Body 0.96x0.96mm, Pitch 0.5mm)
pins: A1 VN (power) "Negative Voltage Supply Rail", A2 CH1 "ESD Channel", B1 CH2 "ESD Channel", B2 VP (power) "Positive Voltage Supply Rail"

## CM1230-04CP
designator U?
4-Channel Low-Capacitance ESD Protection Array, 6-Pin CSP, Pb-Free, Tape and Reel; Manufacturer: On Semiconductor; PartNumber: CM1230-04CP; C Max (pF): 1.2; Direction: Unidirectional; Number of Lines: 4; DatasheetVersion: Rev. 4; PackageVersion: Rev. O, 07/2010; PackageReference: CSP-6-567BB-01; PackageDescription: 6-Ball Wafer Level Chip Scale Package, Body 1.46 x 0.96 mm, Pitch 0.5 mm; Supplier 1: Digi-Key; Supplier Part Number 1: CM1230-04CP-ND; Supplier 2: Newark; Supplier Part Number 2: 99R2528; Supplier 3: Mouser; Supplier Part Number 3: 748-CM1230-04CP; Packing: Tape and Reel; RoHS: Pb-Free; Mounting Technology: Surface Mount; ComponentLink1Description: Manufacturer URL; ComponentLink1URL: http://www.onsemi.com/; ComponentLink2Description: Datasheet; ComponentLink2URL: http://www.onsemi.com/pub_link/Collateral/CM1230-D.PDF; ComponentLink3Description: Package Specification; ComponentLink3URL: http://www.onsemi.com/pub_link/Collateral/567BB.PDF
footprint ONSC-CSP-6-567BB-01 (BGA, 6-Balls, Body 1.46x0.96mm, Pitch 0.5mm)
pins: A1 CH1 "ESD Channel", A2 VP (power) "Positive Voltage Supply Rail", A3 CH3 "ESD Channel", B1 CH2 "ESD Channel", B2 VN (power) "Negative Voltage Supply Rail", B3 CH4 "ESD Channel"

## CM1230-08CP
designator U?
8-Channel Low-Capacitance ESD Protection Array, 10-Pin CSP, Pb-Free, Tape and Reel; Manufacturer: On Semiconductor; PartNumber: CM1230-08CP; C Max (pF): 1.2; Direction: Unidirectional; Number of Lines: 8; DatasheetVersion: Rev. 4; PackageVersion: Rev. O, 07/2010; PackageReference: CSP-10-567BG-01; PackageDescription: 10-Ball Wafer Level Chip Scale Package, Body 2.46 x 0.96 mm, Pitch 0.5 mm; Supplier 1: Digi-Key; Supplier Part Number 1: CM1230-08CPOSTR-ND; Supplier 2: Digi-Key; Supplier Part Number 2: CM1230-08CPOSCT-ND; Supplier 3: Digi-Key; Supplier Part Number 3: CM1230-08CPOSDKR-ND; Supplier 4: Newark; Supplier Part Number 4: 99R2529; Supplier 5: Mouser; Supplier Part Number 5: 748-CM1230-08CP; Packing: Tape and Reel; RoHS: Pb-Free; Mounting Technology: Surface Mount; ComponentLink1Description: Manufacturer URL; ComponentLink1URL: http://www.onsemi.com/; ComponentLink2Description: Datasheet; ComponentLink2URL: http://www.onsemi.com/pub_link/Collateral/CM1230-D.PDF; ComponentLink3Description: Package Specification; ComponentLink3URL: http://www.onsemi.com/pub_link/Collateral/567BG.PDF
footprint ONSC-CSP-10-567BG-01 (BGA, 10-Balls, Body 2.46x0.96mm, Pitch 0.5mm)
pins: A1 CH1 "ESD Channel", A2 CH3 "ESD Channel", A3 VP (power) "Positive Voltage Supply Rail", A4 CH5 "ESD Channel", A5 CH7 "ESD Channel", B1 CH2 "ESD Channel", B2 CH4 "ESD Channel", B3 VN (power) "Negative Voltage Supply Rail", B4 CH6 "ESD Channel", B5 CH8 "ESD Channel"

## CM1230-J2CP
designator U?
2-Channel Low-Capacitance ESD Protection Array, 4-Pin WLCSP, Pb-Free, Tape and Reel; Manufacturer: On Semiconductor; PartNumber: CM1230-J2CP; C Max (pF): 1.2; Direction: Unidirectional; Number of Lines: 2; DatasheetVersion: Rev. 4; PackageVersion: Rev. O, 07/2010; PackageReference: WLCSP-4-567CS-01; PackageDescription: 4-Ball Wafer Level Chip Scale Package, Body 0.96 x 0.96 mm, Pitch 0.5 mm; Supplier 1: Digi-Key; Supplier Part Number 1: CM1230-J2CP-ND; Supplier 2: Mouser; Supplier Part Number 2: 748-CM1230-J2CP; Packing: Tape and Reel; RoHS: Pb-Free; Mounting Technology: Surface Mount; ComponentLink1Description: Manufacturer URL; ComponentLink1URL: http://www.onsemi.com/; ComponentLink2Description: Datasheet; ComponentLink2URL: http://www.onsemi.com/pub_link/Collateral/CM1230-D.PDF; ComponentLink3Description: Package Specification; ComponentLink3URL: http://www.onsemi.cn/pub_link/Collateral/567CS.PDF
footprint ONSC-WLCSP-4-567CS-01 (BGA, 4-Balls, Body 0.96x0.96mm, Pitch 0.5mm)
pins: A1 VN (power) "Negative Voltage Supply Rail", A2 CH1 "ESD Channel", B1 CH2 "ESD Channel", B2 VP (power) "Positive Voltage Supply Rail"

## CM1231-02SO
designator U?
2-Channel Low-Capacitance ESD Protection Array, 6-Pin SOT-23, Pb-Free, Tape and Reel; Manufacturer: On Semiconductor; PartNumber: CM1231-02SO; Direction: Bidirectional; Number of Lines: 2; PPK Max (W): 0.225; DatasheetVersion: Rev. 3; PackageVersion: Rev. B, 02/2012; PackageReference: SOT23-6-527AJ; PackageDescription: 6-Pin Small Outline Transistor, Body 2.85 x 1.55 mm, Pitch 0.95 mm; Supplier 1: Digi-Key; Supplier Part Number 1: CM1231-02SOOSTR-ND; Supplier 2: Digi-Key; Supplier Part Number 2: CM1231-02SOOSCT-ND; Supplier 3: Digi-Key; Supplier Part Number 3: CM1231-02SOOSDKR-ND; Supplier 4: Newark; Supplier Part Number 4: 99R2530; Supplier 5: Mouser; Supplier Part Number 5: 748-CM1231-02SO; Packing: Tape and Reel; RoHS: Pb-Free; Mounting Technology: Surface Mount; ComponentLink1Description: Manufacturer URL; ComponentLink1URL: http://www.onsemi.com/; ComponentLink2Description: Datasheet; ComponentLink2URL: http://www.onsemi.com/pub_link/Collateral/CM1231%20DATA%20SHEET.PDF; ComponentLink3Description: Package Specification; ComponentLink3URL: http://www.onsemi.com/pub_link/Collateral/527AJ.PDF
footprint ONSC-SOT23-6-527AJ_V (SOT23, 6-Leads, Body 3x1.8mm, Pitch 0.95mm)
pins: 1 AOUT (io) "Bidirectional clamp to Connector (Outside the system)", 2 VN (power) "Ground return to Shield", 3 AIN (io) "Bidirectional clamp to ASIC (Inside the system)", 4 BIN (io) "Bidirectional clamp to ASIC (Inside the system)", 5 VP (power) "Bias voltage (optional)", 6 BOUT (io) "Bidirectional clamp to Connector (Outside the system)"

## CM1233-08DE
designator U?
PicoGuard(R) XS ESD Clamp Array for High Speed Data Line Protection, 16-Pin WDFN, Pb-Free, Tape and Reel; Manufacturer: On Semiconductor; PartNumber: CM1233-08DE; Direction: Unidirectional; IR Max (uA): 1; Number of Lines: 8; DatasheetVersion: Rev. 3; PackageVersion: Rev. O, 07/2010; PackageReference: WDFN-16-511AY-01; PackageDescription: 16-Pin Small Outline No-Lead, Body 6 x 4 mm, Pitch 0.75 mm; Supplier 1: Digi-Key; Supplier Part Number 1: CM1233-08DEOSTR-ND; Supplier 2: Digi-Key; Supplier Part Number 2: CM1233-08DEOSCT-ND; Supplier 3: Digi-Key; Supplier Part Number 3: CM1233-08DEOSDKR-ND; Supplier 4: Newark; Supplier Part Number 4: 99R2531; Supplier 5: Mouser; Supplier Part Number 5: 748-CM1233-08DE; Packing: Tape and Reel; RoHS: Pb-Free; Mounting Technology: Surface Mount; ComponentLink1Description: Manufacturer URL; ComponentLink1URL: http://www.onsemi.com/; ComponentLink2Description: Datasheet; ComponentLink2URL: http://www.onsemi.com/pub_link/Collateral/CM1233-D.PDF; ComponentLink3Description: Package Specification; ComponentLink3URL: http://www.onsemi.com/pub_link/Collateral/511AY.PDF
footprint ONSC-WDFN-16-511AY-01_V (SON, 16-Leads, Body 6x4mm, Pitch 0.75mm, Thermal Pad 1.96x5.26mm)
pins: 1 IN_1+ (io) "Bidirectional Clamp to ASIC (inside system)", 2 IN_1- (io) "Bidirectional Clamp to ASIC (inside system)", 3 IN_2+ (io) "Bidirectional Clamp to ASIC (inside system)", 4 IN_2- (io) "Bidirectional Clamp to ASIC (inside system)", 5 IN_3+ (io) "Bidirectional Clamp to ASIC (inside system)", 6 IN_3- (io) "Bidirectional Clamp to ASIC (inside system)", 7 IN_4+ (io) "Bidirectional Clamp to ASIC (inside system)", 8 IN_4- (io) "Bidirectional Clamp to ASIC (inside system)", 9 OUT_4- (io) "Bidirectional Clamp to Connector (outside system)", 10 OUT_4+ (io) "Bidirectional Clamp to Connector (outside system)", 11 OUT_3- (io) "Bidirectional Clamp to Connector (outside system)", 12 OUT_3+ (io) "Bidirectional Clamp to Connector (outside system)", 13 OUT_2- (io) "Bidirectional Clamp to Connector (outside system)", 14 OUT_2+ (io) "Bidirectional Clamp to Connector (outside system)", 15 OUT_1- (io) "Bidirectional Clamp to Connector (outside system)", 16 OUT_1+ (io) "Bidirectional Clamp to Connector (outside system)", 17 GND (power) "Ground return to shield"

## CM1234-08DE
designator U?
PicoGuard(R) XS ESD Clamp Array for High Speed Data Line Protection, 16-Pin WDFN, Pb-Free, Tape and Reel; Manufacturer: On Semiconductor; PartNumber: CM1234-08DE; Direction: Unidirectional; IR Max (uA): 1; Number of Lines: 8; DatasheetVersion: Rev. 4; PackageVersion: Rev. O, 07/2010; PackageReference: WDFN-16-511AY-01; PackageDescription: 16-Pin Small Outline No-Lead, Body 6 x 4 mm, Pitch 0.75 mm; Supplier 1: Digi-Key; Supplier Part Number 1: CM1234-08DE-ND; Supplier 2: Farnell; Supplier Part Number 2: 1908085; Supplier 3: Farnell; Supplier Part Number 3: 1908085RL; Supplier 4: Mouser; Supplier Part Number 4: 748-CM1234-08DE; Packing: Tape and Reel; RoHS: Pb-Free; Mounting Technology: Surface Mount; ComponentLink1Description: Manufacturer URL; ComponentLink1URL: http://www.onsemi.com/; ComponentLink2Description: Datasheet; ComponentLink2URL: http://www.onsemi.com/pub_link/Collateral/CM1234-D.PDF; ComponentLink3Description: Package Specification; ComponentLink3URL: http://www.onsemi.com/pub_link/Collateral/511AY.PDF
footprint ONSC-WDFN-16-511AY-01_V (SON, 16-Leads, Body 6x4mm, Pitch 0.75mm, Thermal Pad 1.96x5.26mm)
pins: 1 IN_1+ (io) "Bidirectional Clamp to ASIC (inside system)", 2 IN_1- (io) "Bidirectional Clamp to ASIC (inside system)", 3 IN_2+ (io) "Bidirectional Clamp to ASIC (inside system)", 4 IN_2- (io) "Bidirectional Clamp to ASIC (inside system)", 5 IN_3+ (io) "Bidirectional Clamp to ASIC (inside system)", 6 IN_3- (io) "Bidirectional Clamp to ASIC (inside system)", 7 IN_4+ (io) "Bidirectional Clamp to ASIC (inside system)", 8 IN_4- (io) "Bidirectional Clamp to ASIC (inside system)", 9 OUT_4- (io) "Bidirectional Clamp to Connector (outside system)", 10 OUT_4+ (io) "Bidirectional Clamp to Connector (outside system)", 11 OUT_3- (io) "Bidirectional Clamp to Connector (outside system)", 12 OUT_3+ (io) "Bidirectional Clamp to Connector (outside system)", 13 OUT_2- (io) "Bidirectional Clamp to Connector (outside system)", 14 OUT_2+ (io) "Bidirectional Clamp to Connector (outside system)", 15 OUT_1- (io) "Bidirectional Clamp to Connector (outside system)", 16 OUT_1+ (io) "Bidirectional Clamp to Connector (outside system)", 17 GND (power) "Ground return to shield"

## CM1235-08DE
designator U?
Small Footprint PicoGuard(R) XS ESD Clamp Array for High Speed Data Line Protection, 16-Pin WDFN, Pb-Free, Tape and Reel; Manufacturer: On Semiconductor; PartNumber: CM1235-08DE; Direction: Unidirectional; IR Max (uA): 1; Number of Lines: 8; DatasheetVersion: Rev. 4; PackageVersion: Rev. O, 07/2010; PackageReference: WDFN-16-511BG-01; PackageDescription: 16-Pin Small Outline No-Lead, Body 4 x 1.7 mm, Pitch 0.5 mm; Supplier 1: Digi-Key; Supplier Part Number 1: CM1235-08DEOSTR-ND; Supplier 2: Digi-Key; Supplier Part Number 2: CM1235-08DEOSCT-ND; Supplier 3: Digi-Key; Supplier Part Number 3: CM1235-08DEOSDKR-ND; Supplier 4: Newark; Supplier Part Number 4: 99R2532; Supplier 5: Mouser; Supplier Part Number 5: 748-CM1235-08DE; Packing: Tape and Reel; RoHS: Pb-Free; Mounting Technology: Surface Mount; ComponentLink1Description: Manufacturer URL; ComponentLink1URL: http://www.onsemi.com/; ComponentLink2Description: Datasheet; ComponentLink2URL: http://www.onsemi.com/pub_link/Collateral/CM1235-D.PDF; ComponentLink3Description: Package Specification; ComponentLink3URL: http://www.onsemi.com/pub/Collateral/511BG.PDF
footprint ONSC-WDFN-16-511BG-01_V (SON, 16-Leads, Body 4x1.7mm, Pitch 0.5mm, Thermal Pad 0.6x3.3mm)
pins: 1 IN_1+ (io) "Bidirectional Clamp to ASIC (inside system)", 2 IN_1- (io) "Bidirectional Clamp to ASIC (inside system)", 3 IN_2+ (io) "Bidirectional Clamp to ASIC (inside system)", 4 IN_2- (io) "Bidirectional Clamp to ASIC (inside system)", 5 IN_3+ (io) "Bidirectional Clamp to ASIC (inside system)", 6 IN_3- (io) "Bidirectional Clamp to ASIC (inside system)", 7 IN_4+ (io) "Bidirectional Clamp to ASIC (inside system)", 8 IN_4- (io) "Bidirectional Clamp to ASIC (inside system)", 9 OUT_4- (io) "Bidirectional Clamp to Connector (outside system)", 10 OUT_4+ (io) "Bidirectional Clamp to Connector (outside system)", 11 OUT_3- (io) "Bidirectional Clamp to Connector (outside system)", 12 OUT_3+ (io) "Bidirectional Clamp to Connector (outside system)", 13 OUT_2- (io) "Bidirectional Clamp to Connector (outside system)", 14 OUT_2+ (io) "Bidirectional Clamp to Connector (outside system)", 15 OUT_1- (io) "Bidirectional Clamp to Connector (outside system)", 16 OUT_1+ (io) "Bidirectional Clamp to Connector (outside system)", 17 GND (power) "Ground return to shield"

## CM1236-08DE
designator U?
PicoGuard(R) XS ESD Clamp Array for High Speed Data Line Protection, 16-Pin WDFN, Pb-Free, Tape and Reel; Manufacturer: On Semiconductor; PartNumber: CM1236-08DE; Direction: Unidirectional; Number of Lines: 8; DatasheetVersion: Rev. 4; PackageVersion: Rev. O, 07/2010; PackageReference: WDFN-16-511AY-01; PackageDescription: 16-Pin Small Outline No-Lead, Body 6 x 4 mm, Pitch 0.75 mm; Supplier 1: Digi-Key; Supplier Part Number 1: CM1236-08DE-ND; Supplier 2: Mouser; Supplier Part Number 2: 748-CM1236-08DE; Packing: Tape and Reel; RoHS: Pb-Free; Mounting Technology: Surface Mount; ComponentLink1Description: Manufacturer URL; ComponentLink1URL: http://www.onsemi.com/; ComponentLink2Description: Datasheet; ComponentLink2URL: http://www.onsemi.com/pub_link/Collateral/CM1236-D.PDF; ComponentLink3Description: Package Specification; ComponentLink3URL: http://www.onsemi.com/pub_link/Collateral/511AY.PDF
footprint ONSC-WDFN-16-511AY-01_V (SON, 16-Leads, Body 6x4mm, Pitch 0.75mm, Thermal Pad 1.96x5.26mm)
pins: 1 IN_1+ (io) "Bidirectional Clamp to ASIC (inside system)", 2 IN_1- (io) "Bidirectional Clamp to ASIC (inside system)", 3 IN_2+ (io) "Bidirectional Clamp to ASIC (inside system)", 4 IN_2- (io) "Bidirectional Clamp to ASIC (inside system)", 5 IN_3+ (io) "Bidirectional Clamp to ASIC (inside system)", 6 IN_3- (io) "Bidirectional Clamp to ASIC (inside system)", 7 IN_4+ (io) "Bidirectional Clamp to ASIC (inside system)", 8 IN_4- (io) "Bidirectional Clamp to ASIC (inside system)", 9 OUT_4- (io) "Bidirectional Clamp to Connector (outside system)", 10 OUT_4+ (io) "Bidirectional Clamp to Connector (outside system)", 11 OUT_3- (io) "Bidirectional Clamp to Connector (outside system)", 12 OUT_3+ (io) "Bidirectional Clamp to Connector (outside system)", 13 OUT_2- (io) "Bidirectional Clamp to Connector (outside system)", 14 OUT_2+ (io) "Bidirectional Clamp to Connector (outside system)", 15 OUT_1- (io) "Bidirectional Clamp to Connector (outside system)", 16 OUT_1+ (io) "Bidirectional Clamp to Connector (outside system)", 17 GND (power) "Ground return to shield"